# EAGLE library part W971 (library dec-m)
Double sided Double Height Connector, 72 pins
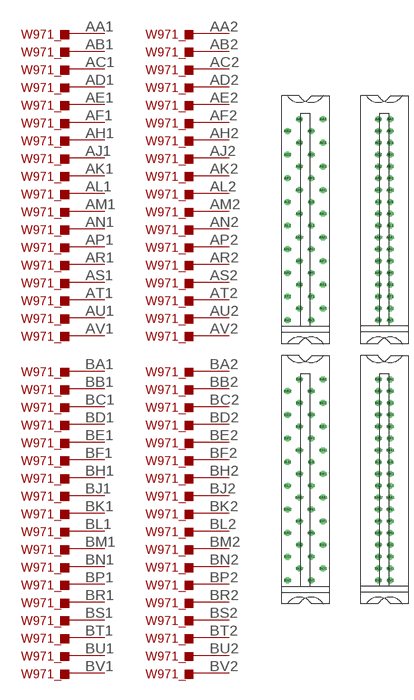
[diagram p107: symbol with the pads of H807-2; footprints H807-2, ECS2418-2]

Designator prefix W971_; gates AA1=PIN AB1=PIN AC1=PIN AD1=PIN AE1=PIN AF1=PIN AH1=PIN AJ1=PIN AK1=PIN AL1=PIN AM1=PIN AN1=PIN AP1=PIN AR1=PIN AS1=PIN AT1=PIN AU1=PIN AV1=PIN AA2=PIN AB2=PIN AC2=PIN AD2=PIN AE2=PIN AF2=PIN AH2=PIN AJ2=PIN AK2=PIN AL2=PIN AM2=PIN AN2=PIN AP2=PIN AR2=PIN AS2=PIN AT2=PIN AU2=PIN AV2=PIN BA1=PIN BB1=PIN BC1=PIN BD1=PIN BE1=PIN BF1=PIN BH1=PIN BJ1=PIN BK1=PIN BL1=PIN BM1=PIN BN1=PIN BP1=PIN BR1=PIN BS1=PIN BT1=PIN BU1=PIN BV1=PIN BA2=PIN BB2=PIN BC2=PIN BD2=PIN BE2=PIN BF2=PIN BH2=PIN BJ2=PIN BK2=PIN BL2=PIN BM2=PIN BN2=PIN BP2=PIN BR2=PIN BS2=PIN BT2=PIN BU2=PIN BV2=PIN

## W971  [H807-2]
AA1  AA1:P$2
AA2  AA2:P$2
AB1  AB1:P$2
AB2  AB2:P$2
AC1  AC1:P$2
AC2  AC2:P$2
AD1  AD1:P$2
AD2  AD2:P$2
AE1  AE1:P$2
AE2  AE2:P$2
AF1  AF1:P$2
AF2  AF2:P$2
AH1  AH1:P$2
AH2  AH2:P$2
AJ1  AJ1:P$2
AJ2  AJ2:P$2
AK1  AK1:P$2
AK2  AK2:P$2
AL1  AL1:P$2
AL2  AL2:P$2
AM1  AM1:P$2
AM2  AM2:P$2
AN1  AN1:P$2
AN2  AN2:P$2
AP1  AP1:P$2
AP2  AP2:P$2
AR1  AR1:P$2
AR2  AR2:P$2
AS1  AS1:P$2
AS2  AS2:P$2
AT1  AT1:P$2
AT2  AT2:P$2
AU1  AU1:P$2
AU2  AU2:P$2
AV1  AV1:P$2
AV2  AV2:P$2
BA1  BA1:P$2
BA2  BA2:P$2
BB1  BB1:P$2
BB2  BB2:P$2
BC1  BC1:P$2
BC2  BC2:P$2
BD1  BD1:P$2
BD2  BD2:P$2
BE1  BE1:P$2
BE2  BE2:P$2
BF1  BF1:P$2
BF2  BF2:P$2
BH1  BH1:P$2
BH2  BH2:P$2
BJ1  BJ1:P$2
BJ2  BJ2:P$2
BK1  BK1:P$2
BK2  BK2:P$2
BL1  BL1:P$2
BL2  BL2:P$2
BM1  BM1:P$2
BM2  BM2:P$2
BN1  BN1:P$2
BN2  BN2:P$2
BP1  BP1:P$2
BP2  BP2:P$2
BR1  BR1:P$2
BR2  BR2:P$2
BS1  BS1:P$2
BS2  BS2:P$2
BT1  BT1:P$2
BT2  BT2:P$2
BU1  BU1:P$2
BU2  BU2:P$2
BV1  BV1:P$2
BV2  BV2:P$2

## W971ECS  [ECS2418-2]
Pads as for H807-2

## W971EDAC  [EDAC346-36-2]
Pads as for H807-2

## Footprint H807-2 (pad centres in mm)
Two-wide Female Edge Connector
drill 1.092 octagon: AA1 4.763,60.325; AA2 -1.587,60.325; AB1 1.587,57.15; AB2 -4.763,57.15; AC1 4.763,53.975; AC2 -1.587,53.975; AD1 1.587,50.8; AD2 -4.763,50.8; AE1 4.763,47.625; AE2 -1.587,47.625; AF1 1.587,44.45; AF2 -4.763,44.45; AH1 4.763,41.275; AH2 -1.587,41.275; AJ1 1.587,38.1; AJ2 -4.763,38.1; AK1 4.763,34.925; AK2 -1.587,34.925; AL1 1.587,31.75; AL2 -4.763,31.75; AM1 4.763,28.575; AM2 -1.587,28.575; AN1 1.587,25.4; AN2 -4.763,25.4; AP1 4.763,22.225; AP2 -1.587,22.225; AR1 1.587,19.05; AR2 -4.763,19.05; AS1 4.763,15.875; AS2 -1.587,15.875; AT1 1.587,12.7; AT2 -4.763,12.7; AU1 4.763,9.525; AU2 -1.587,9.525; AV1 1.587,6.35; AV2 -4.763,6.35; BA1 4.763,-9.525; BA2 -1.587,-9.525; BB1 1.587,-12.7; BB2 -4.763,-12.7; BC1 4.763,-15.875; BC2 -1.587,-15.875; BD1 1.587,-19.05; BD2 -4.763,-19.05; BE1 4.763,-22.225; BE2 -1.587,-22.225; BF1 1.587,-25.4; BF2 -4.763,-25.4; BH1 4.763,-28.575; BH2 -1.587,-28.575; BJ1 1.587,-31.75; BJ2 -4.763,-31.75; BK1 4.763,-34.925; BK2 -1.587,-34.925; BL1 1.587,-38.1; BL2 -4.763,-38.1; BM1 4.763,-41.275; BM2 -1.587,-41.275; BN1 1.587,-44.45; BN2 -4.763,-44.45; BP1 4.763,-47.625; BP2 -1.587,-47.625; BR1 1.587,-50.8; BR2 -4.763,-50.8; BS1 4.763,-53.975; BS2 -1.587,-53.975; BT1 1.587,-57.15; BT2 -4.763,-57.15; BU1 4.763,-60.325; BU2 -1.587,-60.325; BV1 1.587,-63.5; BV2 -4.763,-63.5

## Footprint ECS2418-2 (pad centres in mm)
drill 1.092 octagon: AA1 1.587,60.325; AA2 -1.587,60.325; AB1 1.587,57.15; AB2 -1.587,57.15; AC1 1.587,53.975; AC2 -1.587,53.975; AD1 1.587,50.8; AD2 -1.587,50.8; AE1 1.587,47.625; AE2 -1.587,47.625; AF1 1.587,44.45; AF2 -1.587,44.45; AH1 1.587,41.275; AH2 -1.587,41.275; AJ1 1.587,38.1; AJ2 -1.587,38.1; AK1 1.587,34.925; AK2 -1.587,34.925; AL1 1.587,31.75; AL2 -1.587,31.75; AM1 1.587,28.575; AM2 -1.587,28.575; AN1 1.587,25.4; AN2 -1.587,25.4; AP1 1.587,22.225; AP2 -1.587,22.225; AR1 1.587,19.05; AR2 -1.587,19.05; AS1 1.587,15.875; AS2 -1.587,15.875; AT1 1.587,12.7; AT2 -1.587,12.7; AU1 1.587,9.525; AU2 -1.587,9.525; AV1 1.587,6.35; AV2 -1.587,6.35; BA1 1.587,-9.525; BA2 -1.587,-9.525; BB1 1.587,-12.7; BB2 -1.587,-12.7; BC1 1.587,-15.875; BC2 -1.587,-15.875; BD1 1.587,-19.05; BD2 -1.587,-19.05; BE1 1.587,-22.225; BE2 -1.587,-22.225; BF1 1.587,-25.4; BF2 -1.587,-25.4; BH1 1.587,-28.575; BH2 -1.587,-28.575; BJ1 1.587,-31.75; BJ2 -1.587,-31.75; BK1 1.587,-34.925; BK2 -1.587,-34.925; BL1 1.587,-38.1; BL2 -1.587,-38.1; BM1 1.587,-41.275; BM2 -1.587,-41.275; BN1 1.587,-44.45; BN2 -1.587,-44.45; BP1 1.587,-47.625; BP2 -1.587,-47.625; BR1 1.587,-50.8; BR2 -1.587,-50.8; BS1 1.587,-53.975; BS2 -1.587,-53.975; BT1 1.587,-57.15; BT2 -1.587,-57.15; BU1 1.587,-60.325; BU2 -1.587,-60.325; BV1 1.587,-63.5; BV2 -1.587,-63.5

## Footprint EDAC346-36-2 (pad centres in mm)
drill 1.092 octagon: AA1 3.175,60.325; AA2 -3.175,60.325; AB1 3.175,57.15; AB2 -3.175,57.15; AC1 3.175,53.975; AC2 -3.175,53.975; AD1 3.175,50.8; AD2 -3.175,50.8; AE1 3.175,47.625; AE2 -3.175,47.625; AF1 3.175,44.45; AF2 -3.175,44.45; AH1 3.175,41.275; AH2 -3.175,41.275; AJ1 3.175,38.1; AJ2 -3.175,38.1; AK1 3.175,34.925; AK2 -3.175,34.925; AL1 3.175,31.75; AL2 -3.175,31.75; AM1 3.175,28.575; AM2 -3.175,28.575; AN1 3.175,25.4; AN2 -3.175,25.4; AP1 3.175,22.225; AP2 -3.175,22.225; AR1 3.175,19.05; AR2 -3.175,19.05; AS1 3.175,15.875; AS2 -3.175,15.875; AT1 3.175,12.7; AT2 -3.175,12.7; AU1 3.175,9.525; AU2 -3.175,9.525; AV1 3.175,6.35; AV2 -3.175,6.35; BA1 3.175,-9.525; BA2 -3.175,-9.525; BB1 3.175,-12.7; BB2 -3.175,-12.7; BC1 3.175,-15.875; BC2 -3.175,-15.875; BD1 3.175,-19.05; BD2 -3.175,-19.05; BE1 3.175,-22.225; BE2 -3.175,-22.225; BF1 3.175,-25.4; BF2 -3.175,-25.4; BH1 3.175,-28.575; BH2 -3.175,-28.575; BJ1 3.175,-31.75; BJ2 -3.175,-31.75; BK1 3.175,-34.925; BK2 -3.175,-34.925; BL1 3.175,-38.1; BL2 -3.175,-38.1; BM1 3.175,-41.275; BM2 -3.175,-41.275; BN1 3.175,-44.45; BN2 -3.175,-44.45; BP1 3.175,-47.625; BP2 -3.175,-47.625; BR1 3.175,-50.8; BR2 -3.175,-50.8; BS1 3.175,-53.975; BS2 -3.175,-53.975; BT1 3.175,-57.15; BT2 -3.175,-57.15; BU1 3.175,-60.325; BU2 -3.175,-60.325; BV1 3.175,-63.5; BV2 -3.175,-63.5